# EAGLE library part CSK-BUS-CONN (library GTEEL_gwu_mpnl_ucat_v10)
Cubesat Kit Bus Connector 2 x Samtec ESQ-126-39-G-D Connectors 104 pins per Cubesat Kit Bus Spec A5
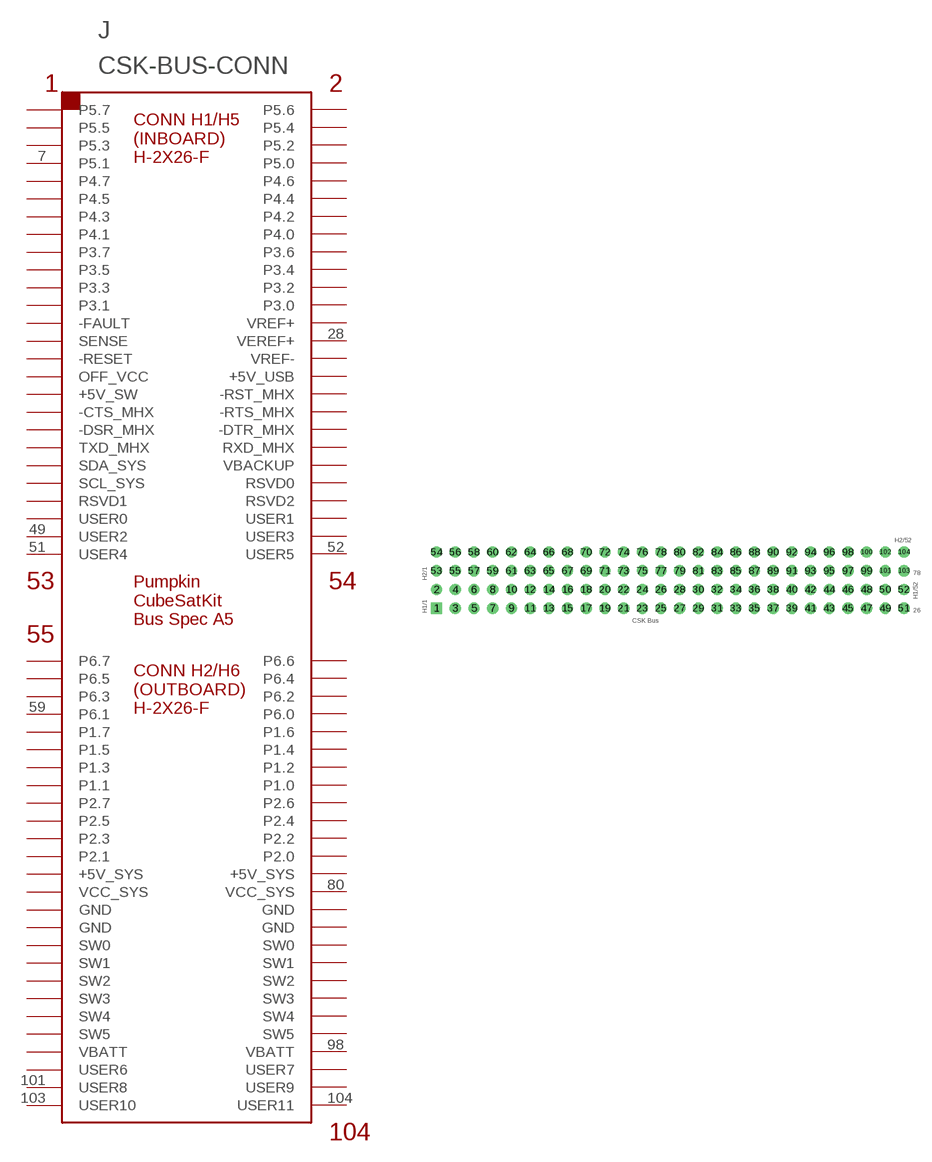
[diagram p5: symbol with the pads of CSK-BUS-PKG; footprint CSK-BUS-PKG]

Designator prefix J

## CSK-BUS-CONN2X2X26  [CSK-BUS-PKG]
1  P5.7
2  P5.6
3  P5.5
4  P5.4
5  P5.3
6  P5.2
7  P5.1
8  P5.0
9  P4.7
10  P4.6
11  P4.5
12  P4.4
13  P4.3
14  P4.2
15  P4.1
16  P4.0
17  P3.7
18  P3.6
19  P3.5
20  P3.4
21  P3.3
22  P3.2
23  P3.1
24  P3.0
25  -FAULT
26  VREF+
27  SENSE
28  VEREF+
29  -RESET
30  VREF-
31  OFF_VCC
32  +5V_USB
33  +5V_SW
34  -RST_MHX
35  -CTS_MHX
36  -RTS_MHX
37  -DSR_MHX
38  -DTR_MHX
39  TXD_MHX
40  RXD_MHX
41  SDA_SYS
42  VBACKUP
43  SCL_SYS
44  RSVD0
45  RSVD1
46  RSVD2
47  USER0
48  USER1
49  USER2
50  USER3
51  USER4
52  USER5
53  P6.7
54  P6.6
55  P6.5
56  P6.4
57  P6.3
58  P6.2
59  P6.1
60  P6.0
61  P1.7
62  P1.6
63  P1.5
64  P1.4
65  P1.3
66  P1.2
67  P1.1
68  P1.0
69  P2.7
70  P2.6
71  P2.5
72  P2.4
73  P2.3
74  P2.2
75  P2.1
76  P2.0
77  +5V_SYS
78  +5V_SYS
79  VCC_SYS
80  VCC_SYS
81  GND
82  GND
83  GND
84  GND
85  SW0
86  SW0
87  SW1
88  SW1
89  SW2
90  SW2
91  SW3
92  SW3
93  SW4
94  SW4
95  SW5
96  SW5
97  VBATT
98  VBATT
99  USER6
100  USER7
101  USER8
102  USER9
103  USER10
104  USER11

## Footprint CSK-BUS-PKG (pad centres in mm)
Cubesat Kit Bus Connector Spec A5 Samtech ESQ Series, or compatible ELEVATED SOCKET, .100 inch(2.54mm) PITCH x 2 Pcs
drill 1.016 pad 1.524 square: 1 -29.21,-3.81
drill 1.016 pad 1.524: 2 -29.21,-1.27; 3 -26.67,-3.81; 4 -26.67,-1.27; 5 -24.13,-3.81; 6 -24.13,-1.27; 7 -21.59,-3.81; 8 -21.59,-1.27; 9 -19.05,-3.81; 10 -19.05,-1.27; 11 -16.51,-3.81; 12 -16.51,-1.27; 13 -13.97,-3.81; 14 -13.97,-1.27; 15 -11.43,-3.81; 16 -11.43,-1.27; 17 -8.89,-3.81; 18 -8.89,-1.27; 19 -6.35,-3.81; 20 -6.35,-1.27; 21 -3.81,-3.81; 22 -3.81,-1.27; 23 -1.27,-3.81; 24 -1.27,-1.27; 25 1.27,-3.81; 26 1.27,-1.27; 27 3.81,-3.81; 28 3.81,-1.27; 29 6.35,-3.81; 30 6.35,-1.27; 31 8.89,-3.81; 32 8.89,-1.27; 33 11.43,-3.81; 34 11.43,-1.27; 35 13.97,-3.81; 36 13.97,-1.27; 37 16.51,-3.81; 38 16.51,-1.27; 39 19.05,-3.81; 40 19.05,-1.27; 41 21.59,-3.81; 42 21.59,-1.27; 43 24.13,-3.81; 44 24.13,-1.27; 45 26.67,-3.81; 46 26.67,-1.27; 47 29.21,-3.81; 48 29.21,-1.27; 49 31.75,-3.81; 50 31.75,-1.27; 51 34.29,-3.81; 52 34.29,-1.27; 53 -29.21,1.27; 54 -29.21,3.81; 55 -26.67,1.27; 56 -26.67,3.81; 57 -24.13,1.27; 58 -24.13,3.81; 59 -21.59,1.27; 60 -21.59,3.81; 61 -19.05,1.27; 62 -19.05,3.81; 63 -16.51,1.27; 64 -16.51,3.81; 65 -13.97,1.27; 66 -13.97,3.81; 67 -11.43,1.27; 68 -11.43,3.81; 69 -8.89,1.27; 70 -8.89,3.81; 71 -6.35,1.27; 72 -6.35,3.81; 73 -3.81,1.27; 74 -3.81,3.81; 75 -1.27,1.27; 76 -1.27,3.81; 77 1.27,1.27; 78 1.27,3.81; 79 3.81,1.27; 80 3.81,3.81; 81 6.35,1.27; 82 6.35,3.81; 83 8.89,1.27; 84 8.89,3.81; 85 11.43,1.27; 86 11.43,3.81; 87 13.97,1.27; 88 13.97,3.81; 89 16.51,1.27; 90 16.51,3.81; 91 19.05,1.27; 92 19.05,3.81; 93 21.59,1.27; 94 21.59,3.81; 95 24.13,1.27; 96 24.13,3.81; 97 26.67,1.27; 98 26.67,3.81; 99 29.21,1.27; 100 29.21,3.81; 101 31.75,1.27; 102 31.75,3.81; 103 34.29,1.27; 104 34.29,3.81